# Altium footprint library 10 MSOP.PcbLib: 1 footprints
Each footprint in its own frame and in the unit in brackets; x right, y up, seen from the top. Pads: shape width x height; smd on the part's side, far side on the other; paste and mask are expansions set on the pad; w line width, h text height; cw(c..) or ccw(c..) is an arc to the next point about the centre after c.
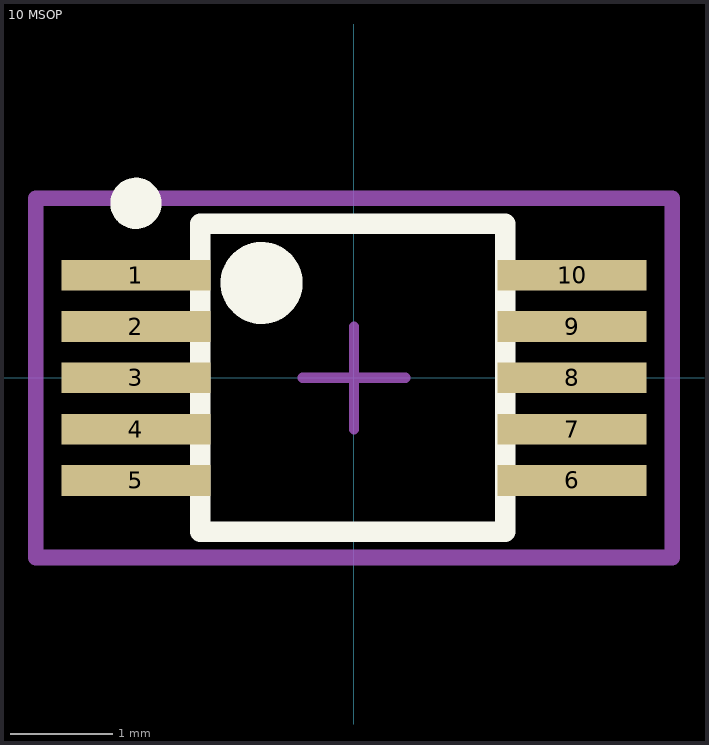
[diagram p0: the footprint, top view; thin cyan lines are the x and y axes]

## 10 MSOP [mm] "(Reference LTC DWG # 05-08-1661 Rev E)"
height 0.86
pads (10):
  rect 1.45x0.3 smd: 1(-2.125,1) 2(-2.125,0.5) 3(-2.125,0) 4(-2.125,-0.5) 5(-2.125,-1) 6(2.125,-1) 7(2.125,-0.5) 8(2.125,0) 9(2.125,0.5) 10(2.125,1)
Top Overlay:
  circle w0.25: c-2.125,1.7 r0.125
  circle w0.4: c-0.9,0.925 r0.2
  lines w0.2: -1.5,-1.5 -1.5,1.5 1.475,1.5 1.475,-1.5 -1.5,-1.5
Mechanical 13:
  lines w0.152: -3.1,-1.75 -3.1,1.75 3.1,1.75 3.1,-1.75 -3.1,-1.75
  text ".Designator" at -2.875,-1.55 h3
Mechanical 16:
  lines w0.05: -3.1,-1.75 -3.1,1.75 3.1,1.75 3.1,-1.75 -3.1,-1.75
  lines w0.1: -0.5,0 0.5,0 ; 0,-0.5 0,0.5
3D body "User Library-msop-10.step": height 1.15, standoff 0, extent -2.45,-1.5 2.45,1.5